# Altium schematic symbol library 13-Regulators 调整.SchLib: 234 symbols (part 2 of 2)
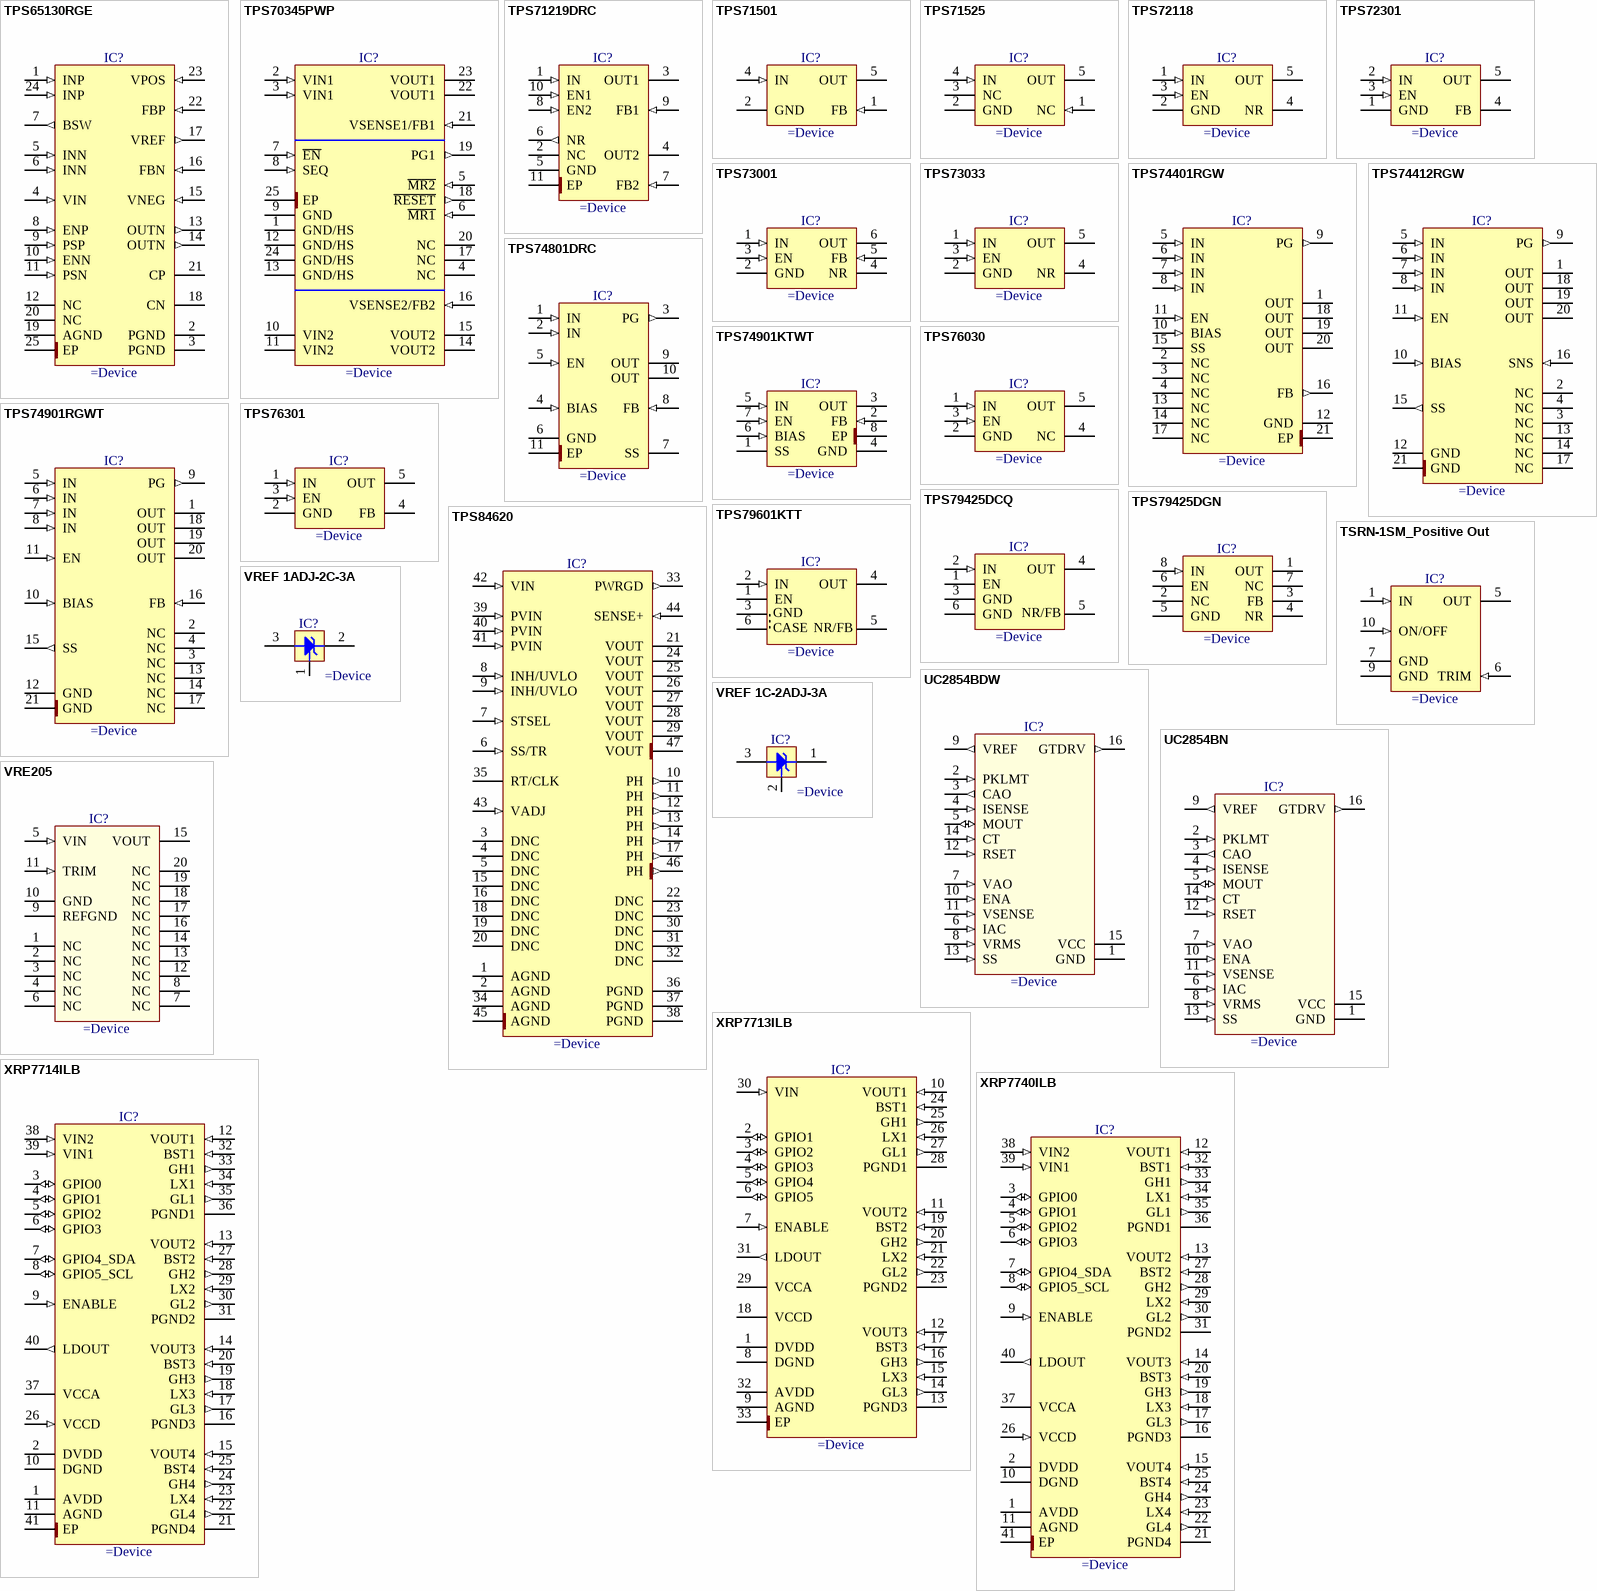
[diagram p7: symbols TPS65130RGE to XRP7740ILB]

## TPS71219DRC
designator IC?
Dual 250 mA Output (1.8V Fixed and 1.2V to 5V Adjustable), UltraLow Noise, High PSRR, Low-Dropout Linear Regulator
pins: 1 IN (in), 2 NC, 3 OUT1 (power), 4 OUT2 (power), 5 GND (power), 6 NR (out), 7 FB2 (in), 8 EN2 (in), 9 FB1 (in), 10 EN1 (in), 11 EP (power)

## TPS71501
designator IC?
1.2V To 15V, 50mA Low-Dropout Adjustable Linear Regulator
pins: 1 FB (in), 2 GND (power), 4 IN (in), 5 OUT (power)

## TPS71525
designator IC?
2.5V, 50mA, 3.2-mA Supply Current, Low-Dropout Linear Regulator
pins: 1 NC (in), 2 GND (power), 3 NC, 4 IN (in), 5 OUT (power)

## TPS72118
designator IC?
1.8V, 150mA, Low Input Voltage, Cap Free, Low-Dropout Linear Regulateur
pins: 1 IN (in), 2 GND (power), 3 EN (in), 4 NR, 5 OUT (power)

## TPS72301
designator IC?
-2.7V To -10V, 200mA Adjustable, Low-Noise, High-PSRR Negative Output Low-Dropout Linear Regulators
pins: 1 GND (power), 2 IN (in), 3 EN (in), 4 FB, 5 OUT (power)

## TPS73001
designator IC?
Low Noise, High PSRR, 200mA, 1.22V to 5.5V Ajustable Low-Dropout Linear Regulator
pins: 1 IN (in), 2 GND (power), 3 EN (in), 4 NR, 5 FB (in), 6 OUT (power)

## TPS73033
designator IC?
Single Output LDO, 200mA, Fixed (3.3V), High PSRR, Low Noise
pins: 1 IN (in), 2 GND (power), 3 EN (in), 4 NR, 5 OUT (power)

## TPS74401RGW
designator IC?
Single Output LDO, 3.0A, Adj.(0.8 to 3.3V), Fast Transient Response, Programmable SoftStart
pins: 1 OUT (power), 2 NC, 3 NC, 4 NC, 5 IN (in), 6 IN (in), 7 IN (in), 8 IN (in), 9 PG (out), 10 BIAS (in), 11 EN (in), 12 GND (power), 13 NC, 14 NC, 15 SS, 16 FB (out), 17 NC, 18 OUT (power), 19 OUT (power), 20 OUT (power), 21 EP (power)

## TPS74412RGW
designator IC?
3A 1.2V Low-Dropout Linear Regulator with Programmable Soft-Start
pins: 1 OUT (power), 2 NC, 3 NC, 4 NC, 5 IN (in), 6 IN (in), 7 IN (in), 8 IN (in), 9 PG (out), 10 BIAS (in), 11 EN (in), 12 GND (power), 13 NC, 14 NC, 15 SS (out), 16 SNS (in), 17 NC, 18 OUT (power), 19 OUT (power), 20 OUT (power), 21 GND (power)

## TPS74801DRC
designator IC?
1.5A 0.8V to 3.6V Low-Dropout Linear Regulator with Programmable Soft-Start
pins: 1 IN (in), 2 IN (in), 3 PG (out), 4 BIAS (in), 5 EN (in), 6 GND (power), 7 SS, 8 FB (in), 9 OUT (power), 10 OUT (power), 11 EP (power)

## TPS74901KTWT
designator IC?
0.8V to 3.6V, 3.0A Low Dropout Linear Regulator with Programmable Soft-Start
pins: 1 SS, 2 FB (in), 3 OUT (power), 4 GND (power), 5 IN (in), 6 BIAS (in), 7 EN (in), 8 EP (power)

## TPS74901RGWT
designator IC?
3A, 0.8 to 3.6V Adjustable Low-Dropout Linear Regulator with Programmable Soft-Start
pins: 1 OUT (power), 2 NC, 3 NC, 4 NC, 5 IN (in), 6 IN (in), 7 IN (in), 8 IN (in), 9 PG (out), 10 BIAS (in), 11 EN (in), 12 GND (power), 13 NC, 14 NC, 15 SS (out), 16 FB (in), 17 NC, 18 OUT (power), 19 OUT (power), 20 OUT (power), 21 GND (power)

## TPS76030
designator IC?
3V 50mA Low-Power Low-Dropout Linear Regulator
pins: 1 IN (in), 2 GND (power), 3 EN (in), 4 NC, 5 OUT (power)

## TPS76301
designator IC?
1.5V to 6V, 150mA, Low-Dropout Linear Regulateur
pins: 1 IN (in), 2 GND (power), 3 EN (in), 4 FB, 5 OUT (power)

## TPS79425DCQ
designator IC?
2.5V Ultralow-Noise, High-PSRR, Fast, RF, 250mA Low-Dropout Linear Regulator
pins: 1 EN (power), 2 IN (in), 3 GND (power), 4 OUT (power), 5 NR/FB, 6 GND (power)

## TPS79425DGN
designator IC?
2.5V Ultralow-Noise, High-PSRR, Fast, RF, 250mA Low-Dropout Linear Regulator
pins: 1 OUT (power), 2 NC, 3 FB, 4 NR, 5 GND (power), 6 EN (power), 7 NC, 8 IN (in)

## TPS79601KTT
designator IC?
Ultralow-Noise, High-PSRR, Fast, RF, 1A Low-Dropout Linear Regulator
pins: 1 EN (power), 2 IN (in), 3 GND (power), 4 OUT (power), 5 NR/FB, 6 CASE (power)

## TPS84620
designator IC?
4.5V to 14.5V Input, 1.2V to 5.5V Output, 6-A Synchronous Buck, Integrated Power Solution
pins: 1 AGND (power), 2 AGND (power), 3 DNC, 4 DNC, 5 DNC, 6 SS/TR (in), 7 STSEL (in), 8 INH/UVLO (in), 9 INH/UVLO (in), 10 PH (out), 11 PH (out), 12 PH (out), 13 PH (out), 14 PH (out), 15 DNC, 16 DNC, 17 PH (out), 18 DNC, 19 DNC, 20 DNC, 21 VOUT (power), 22 DNC, 23 DNC, 24 VOUT (power), 25 VOUT (power), 26 VOUT (power), 27 VOUT (power), 28 VOUT (power), 29 VOUT (power), 30 DNC, 31 DNC, 32 DNC, 33 PWRGD (out), 34 AGND (power), 35 RT/CLK (oc), 36 PGND (power), 37 PGND (power), 38 PGND (power), 39 PVIN (in), 40 PVIN (in), 41 PVIN (in), 42 VIN (in), 43 VADJ (in), 44 SENSE+ (in), 45 AGND (power), 46 PH (out), 47 VOUT (power)

## TSRN-1SM_Positive Out
designator IC?
1A Switching Regulator (Positive Outpout)
pins: 1 IN (in), 5 OUT (power), 6 TRIM (in), 7 GND (power), 9 GND (power), 10 ON/OFF (in)

## UC2854BDW
designator IC?
Enhanced High Power Factor Preregulator
pins: 1 GND (power), 2 PKLMT (in), 3 CAO (out), 4 ISENSE (in), 5 MOUT (io), 6 IAC (in), 7 VAO (in), 8 VRMS (in), 9 VREF (out), 10 ENA (in), 11 VSENSE (in), 12 RSET (in), 13 SS (in), 14 CT (in), 15 VCC (power), 16 GTDRV (out)

## UC2854BN
designator IC?
Enhanced High Power Factor Preregulator
pins: 1 GND (power), 2 PKLMT (in), 3 CAO (out), 4 ISENSE (in), 5 MOUT (io), 6 IAC (in), 7 VAO (in), 8 VRMS (in), 9 VREF (out), 10 ENA (in), 11 VSENSE (in), 12 RSET (in), 13 SS (in), 14 CT (in), 15 VCC (power), 16 GTDRV (out)

## VRE205
designator IC?
Precision Surface Mount Reference Supply
pins: 1 NC, 2 NC, 3 NC, 4 NC, 5 VIN (in), 6 NC, 7 NC, 8 NC, 9 REFGND (power), 10 GND (power), 11 TRIM (in), 12 NC, 13 NC, 14 NC, 15 VOUT, 16 NC, 17 NC, 18 NC, 19 NC, 20 NC

## VREF 1ADJ-2C-3A
designator IC?
Precision Reference 1=Adj 2=Cathode 3=Anode
pins: 1 Adj, 2 C, 3 A

## VREF 1C-2ADJ-3A
designator IC?
Precision Reference 1=Cathode 2=Adj 3=Anode
pins: 1 C, 2 Adj, 3 A

## XRP7713ILB
designator IC?
Three Channel Digital PWM Step Down Controller
pins: 1 DVDD (power), 2 GPIO1 (io), 3 GPIO2 (io), 4 GPIO3 (io), 5 GPIO4 (io), 6 GPIO5 (io), 7 ENABLE (in), 8 DGND (power), 9 AGND (power), 10 VOUT1 (in), 11 VOUT2 (in), 12 VOUT3 (in), 13 PGND3 (power), 14 GL3 (out), 15 LX3 (in), 16 GH3 (out), 17 BST3 (in), 18 VCCD (power), 19 BST2 (in), 20 GH2 (out), 21 LX2 (in), 22 GL2 (out), 23 PGND2 (power), 24 BST1 (in), 25 GH1 (out), 26 LX1 (in), 27 GL1 (out), 28 PGND1 (power), 29 VCCA (power), 30 VIN (in), 31 LDOUT (out), 32 AVDD (power), 33 EP (power)

## XRP7714ILB
designator IC?
Quad Channel Digital PWM Step Down Controller
pins: 1 AVDD (power), 2 DVDD (power), 3 GPIO0 (io), 4 GPIO1 (io), 5 GPIO2 (io), 6 GPIO3 (io), 7 GPIO4_SDA (io), 8 GPIO5_SCL (io), 9 ENABLE (in), 10 DGND (power), 11 AGND (power), 12 VOUT1 (in), 13 VOUT2 (in), 14 VOUT3 (in), 15 VOUT4 (in), 16 PGND3 (power), 17 GL3 (out), 18 LX3 (in), 19 GH3 (out), 20 BST3 (in), 21 PGND4 (power), 22 GL4 (out), 23 LX4 (in), 24 GH4 (out), 25 BST4 (in), 26 VCCD (in), 27 BST2 (in), 28 GH2 (out), 29 LX2 (in), 30 GL2 (out), 31 PGND2 (power), 32 BST1 (in), 33 GH1 (out), 34 LX1 (in), 35 GL1 (out), 36 PGND1 (power), 37 VCCA (power), 38 VIN2 (in), 39 VIN1 (in), 40 LDOUT (out), 41 EP (power)

## XRP7740ILB
designator IC?
Quad Channel Digital PWM Step Down Controller
pins: 1 AVDD (power), 2 DVDD (power), 3 GPIO0 (io), 4 GPIO1 (io), 5 GPIO2 (io), 6 GPIO3 (io), 7 GPIO4_SDA (io), 8 GPIO5_SCL (io), 9 ENABLE (in), 10 DGND (power), 11 AGND (power), 12 VOUT1 (in), 13 VOUT2 (in), 14 VOUT3 (in), 15 VOUT4 (in), 16 PGND3 (power), 17 GL3 (out), 18 LX3 (in), 19 GH3 (out), 20 BST3 (in), 21 PGND4 (power), 22 GL4 (out), 23 LX4 (in), 24 GH4 (out), 25 BST4 (in), 26 VCCD (in), 27 BST2 (in), 28 GH2 (out), 29 LX2 (in), 30 GL2 (out), 31 PGND2 (power), 32 BST1 (in), 33 GH1 (out), 34 LX1 (in), 35 GL1 (out), 36 PGND1 (power), 37 VCCA (power), 38 VIN2 (in), 39 VIN1 (in), 40 LDOUT (out), 41 EP (power)